# Altium schematic symbol library Schlib_V1.SchLib: 119 symbols (part 2 of 2)
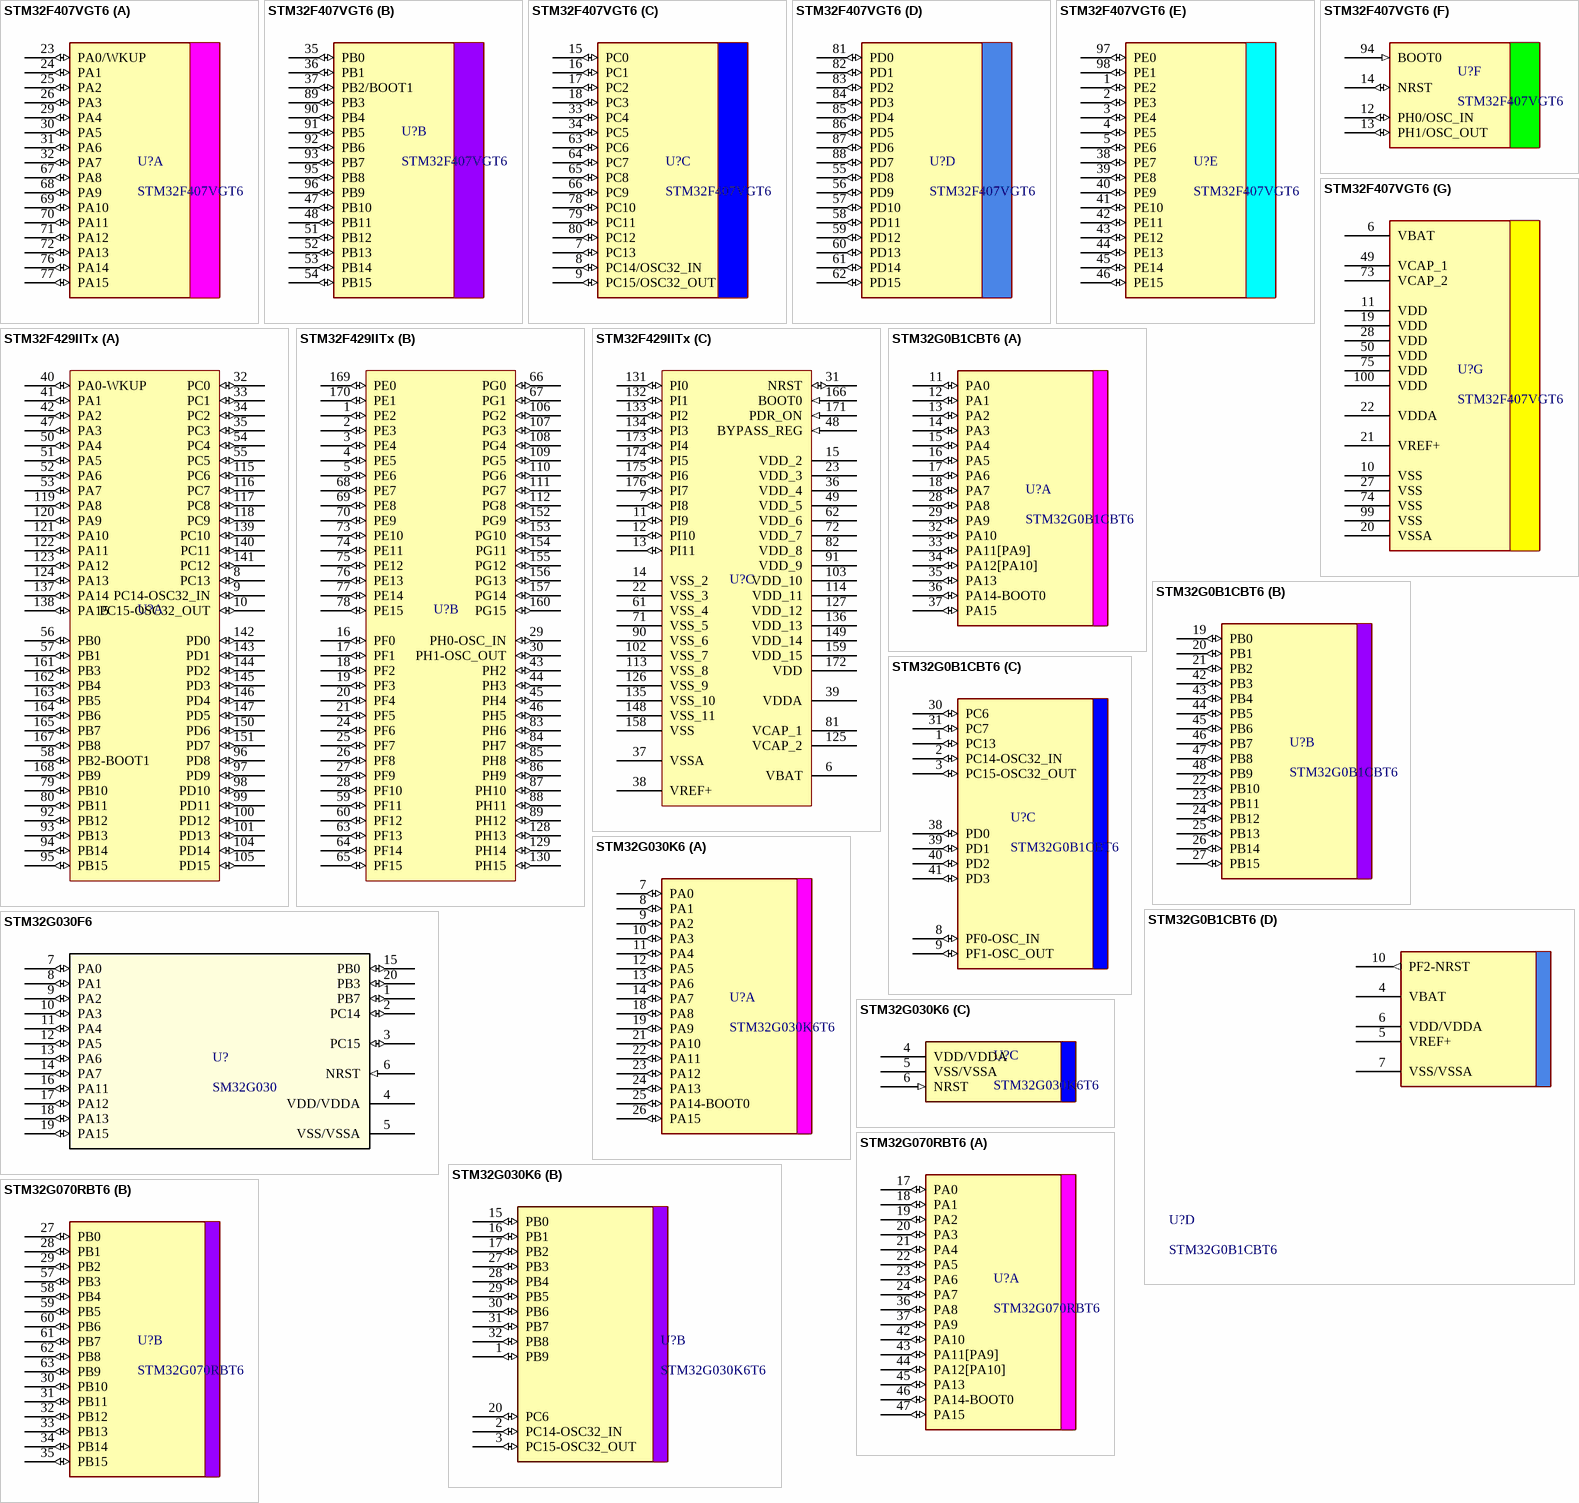
[diagram p9: symbols STM32F407VGT6 to STM32G070RBT6]

## STM32F407VGT6
designator U?
High-performance foundation line, Arm Cortex-M4 core with DSP and FPU, 1 Mbyte of Flash memory, 168 MHz CPU, ART Accelerator, Ethernet, FSMC; Manufacturer_Name: STMicroelectronics; Copyright: Copyright (C) 2025 Ultra Librarian. All rights reserved.; Manufacturer_Part_Number: STM32F407VGT6; RefDes: RefDes; Type: Type
footprint LQFP100
part A pins: 23 PA0/WKUP (io), 24 PA1 (io), 25 PA2 (io), 26 PA3 (io), 29 PA4 (io), 30 PA5 (io), 31 PA6 (io), 32 PA7 (io), 67 PA8 (io), 68 PA9 (io), 69 PA10 (io), 70 PA11 (io), 71 PA12 (io), 72 PA13 (io), 76 PA14 (io), 77 PA15 (io)
part B pins: 35 PB0 (io), 36 PB1 (io), 37 PB2/BOOT1 (io), 47 PB10 (io), 48 PB11 (io), 51 PB12 (io), 52 PB13 (io), 53 PB14 (io), 54 PB15 (io), 89 PB3 (io), 90 PB4 (io), 91 PB5 (io), 92 PB6 (io), 93 PB7 (io), 95 PB8 (io), 96 PB9 (io)
part C pins: 7 PC13 (io), 8 PC14/OSC32_IN (io), 9 PC15/OSC32_OUT (io), 15 PC0 (io), 16 PC1 (io), 17 PC2 (io), 18 PC3 (io), 33 PC4 (io), 34 PC5 (io), 63 PC6 (io), 64 PC7 (io), 65 PC8 (io), 66 PC9 (io), 78 PC10 (io), 79 PC11 (io), 80 PC12 (io)
part D pins: 55 PD8 (io), 56 PD9 (io), 57 PD10 (io), 58 PD11 (io), 59 PD12 (io), 60 PD13 (io), 61 PD14 (io), 62 PD15 (io), 81 PD0 (io), 82 PD1 (io), 83 PD2 (io), 84 PD3 (io), 85 PD4 (io), 86 PD5 (io), 87 PD6 (io), 88 PD7 (io)
part E pins: 1 PE2 (io), 2 PE3 (io), 3 PE4 (io), 4 PE5 (io), 5 PE6 (io), 38 PE7 (io), 39 PE8 (io), 40 PE9 (io), 41 PE10 (io), 42 PE11 (io), 43 PE12 (io), 44 PE13 (io), 45 PE14 (io), 46 PE15 (io), 97 PE0 (io), 98 PE1 (io)
part F pins: 12 PH0/OSC_IN (io), 13 PH1/OSC_OUT (io), 14 NRST (io), 94 BOOT0 (in)
part G pins: 6 VBAT (power), 10 VSS (power), 11 VDD (power), 19 VDD (power), 20 VSSA (power), 21 VREF+ (power), 22 VDDA (power), 27 VSS (power), 28 VDD (power), 49 VCAP_1 (power), 50 VDD (power), 73 VCAP_2 (power), 74 VSS (power), 75 VDD (power), 99 VSS (power), 100 VDD (power)

## STM32F429IITx
designator U?, comment MCU  (value not drawn)
footprint LQFN-176
part A pins: 8 PC13 (io), 9 PC14-OSC32_IN (io), 10 PC15-OSC32_OUT (io), 32 PC0 (io), 33 PC1 (io), 34 PC2 (io), 35 PC3 (io), 40 PA0-WKUP (io), 41 PA1 (io), 42 PA2 (io), 47 PA3 (io), 50 PA4 (io), 51 PA5 (io), 52 PA6 (io), 53 PA7 (io), 54 PC4 (io), 55 PC5 (io), 56 PB0 (io), 57 PB1 (io), 58 PB2-BOOT1 (io), 79 PB10 (io), 80 PB11 (io), 92 PB12 (io), 93 PB13 (io), 94 PB14 (io), 95 PB15 (io), 96 PD8 (io), 97 PD9 (io), 98 PD10 (io), 99 PD11 (io), 100 PD12 (io), 101 PD13 (io), 104 PD14 (io), 105 PD15 (io), 115 PC6 (io), 116 PC7 (io), 117 PC8 (io), 118 PC9 (io), 119 PA8 (io), 120 PA9 (io), 121 PA10 (io), 122 PA11 (io), 123 PA12 (io), 124 PA13 (io), 137 PA14 (io), 138 PA15 (io), 139 PC10 (io), 140 PC11 (io), 141 PC12 (io), 142 PD0 (io), 143 PD1 (io), 144 PD2 (io), 145 PD3 (io), 146 PD4 (io), 147 PD5 (io), 150 PD6 (io), 151 PD7 (io), 161 PB3 (io), 162 PB4 (io), 163 PB5 (io), 164 PB6 (io), 165 PB7 (io), 167 PB8 (io), 168 PB9 (io)
part B pins: 1 PE2 (io), 2 PE3 (io), 3 PE4 (io), 4 PE5 (io), 5 PE6 (io), 16 PF0 (io), 17 PF1 (io), 18 PF2 (io), 19 PF3 (io), 20 PF4 (io), 21 PF5 (io), 24 PF6 (io), 25 PF7 (io), 26 PF8 (io), 27 PF9 (io), 28 PF10 (io), 29 PH0-OSC_IN (io), 30 PH1-OSC_OUT (io), 43 PH2 (io), 44 PH3 (io), 45 PH4 (io), 46 PH5 (io), 59 PF11 (io), 60 PF12 (io), 63 PF13 (io), 64 PF14 (io), 65 PF15 (io), 66 PG0 (io), 67 PG1 (io), 68 PE7 (io), 69 PE8 (io), 70 PE9 (io), 73 PE10 (io), 74 PE11 (io), 75 PE12 (io), 76 PE13 (io), 77 PE14 (io), 78 PE15 (io), 83 PH6 (io), 84 PH7 (io), 85 PH8 (io), 86 PH9 (io), 87 PH10 (io), 88 PH11 (io), 89 PH12 (io), 106 PG2 (io), 107 PG3 (io), 108 PG4 (io), 109 PG5 (io), 110 PG6 (io), 111 PG7 (io), 112 PG8 (io), 128 PH13 (io), 129 PH14 (io), 130 PH15 (io), 152 PG9 (io), 153 PG10 (io), 154 PG11 (io), 155 PG12 (io), 156 PG13 (io), 157 PG14 (io), 160 PG15 (io), 169 PE0 (io), 170 PE1 (io)
part C pins: 6 VBAT (power), 7 PI8 (io), 11 PI9 (io), 12 PI10 (io), 13 PI11 (io), 14 VSS_2 (power), 15 VDD_2 (power), 22 VSS_3 (power), 23 VDD_3 (power), 31 NRST (io), 36 VDD_4 (power), 37 VSSA (power), 38 VREF+ (power), 39 VDDA (power), 48 BYPASS_REG (in), 49 VDD_5 (power), 61 VSS_4 (power), 62 VDD_6 (power), 71 VSS_5 (power), 72 VDD_7 (power), 81 VCAP_1 (power), 82 VDD_8 (power), 90 VSS_6 (power), 91 VDD_9 (power), 102 VSS_7 (power), 103 VDD_10 (power), 113 VSS_8 (power), 114 VDD_11 (power), 125 VCAP_2 (power), 126 VSS_9 (power), 127 VDD_12 (power), 131 PI0 (io), 132 PI1 (io), 133 PI2 (io), 134 PI3 (io), 135 VSS_10 (power), 136 VDD_13 (power), 148 VSS_11 (power), 149 VDD_14 (power), 158 VSS (power), 159 VDD_15 (power), 166 BOOT0 (in), 171 PDR_ON (in), 172 VDD (power), 173 PI4 (io), 174 PI5 (io), 175 PI6 (io), 176 PI7 (io)

## STM32G0B1CBT6
designator U?
Mainstream Arm Cortex-M0+ 32-bit MCU, up to 128KB Flash, 144KB RAM, 6x USART, timers, ADC, DAC, comm. I/Fs, 1.7-3.6V; Manufacturer_Name: STMicroelectronics; Copyright: Copyright (C) 2026 Ultra Librarian. All rights reserved.; Manufacturer_Part_Number: STM32G0B1CBT6; RefDes: RefDes; Type: Type
footprint LQFP-48
part A pins: 11 PA0 (io), 12 PA1 (io), 13 PA2 (io), 14 PA3 (io), 15 PA4 (io), 16 PA5 (io), 17 PA6 (io), 18 PA7 (io), 28 PA8 (io), 29 PA9 (io), 32 PA10 (io), 33 PA11[PA9] (io), 34 PA12[PA10] (io), 35 PA13 (io), 36 PA14-BOOT0 (io), 37 PA15 (io)
part B pins: 19 PB0 (io), 20 PB1 (io), 21 PB2 (io), 22 PB10 (io), 23 PB11 (io), 24 PB12 (io), 25 PB13 (io), 26 PB14 (io), 27 PB15 (io), 42 PB3 (io), 43 PB4 (io), 44 PB5 (io), 45 PB6 (io), 46 PB7 (io), 47 PB8 (io), 48 PB9 (io)
part C pins: 1 PC13 (io), 2 PC14-OSC32_IN (io), 3 PC15-OSC32_OUT (io), 8 PF0-OSC_IN (io), 9 PF1-OSC_OUT (io), 30 PC6 (io), 31 PC7 (io), 38 PD0 (io), 39 PD1 (io), 40 PD2 (io), 41 PD3 (io)
part D pins: 4 VBAT, 5 VREF+ (power), 6 VDD/VDDA (power), 7 VSS/VSSA (power), 10 PF2-NRST (out)

## STM32G030F6
designator U?, comment SM32G030
footprint TSSOP20
pins: 1 PB7 (io), 2 PC14 (io), 3 PC15 (io), 4 VDD/VDDA (power), 5 VSS/VSSA (power), 6 NRST (in), 7 PA0 (io), 8 PA1 (io), 9 PA2 (io), 10 PA3 (io), 11 PA4 (io), 12 PA5 (io), 13 PA6 (io), 14 PA7 (io), 15 PB0 (io), 16 PA11 (io), 17 PA12 (io), 18 PA13 (io), 19 PA15 (io), 20 PB3 (io)

## STM32G030K6
designator U?, comment STM32G030K6T6
Mainstream Value-Line Arm Cortex-M0+ MCU with 32 Kbytes of Flash memory, 8 Kbytes RAM, 64 MHz CPU, 2x USART, timers, ADC, comm. I/F, 2-3.6V; Manufacturer_Name: STMicroelectronics; Copyright: Copyright (C) 2026 Ultra Librarian. All rights reserved.; Manufacturer_Part_Number: STM32G030K6T6; RefDes: RefDes; Type: Type
footprint LQFP-32
part A pins: 7 PA0 (io), 8 PA1 (io), 9 PA2 (io), 10 PA3 (io), 11 PA4 (io), 12 PA5 (io), 13 PA6 (io), 14 PA7 (io), 18 PA8 (io), 19 PA9 (io), 21 PA10 (io), 22 PA11 (io), 23 PA12 (io), 24 PA13 (io), 25 PA14-BOOT0 (io), 26 PA15 (io)
part B pins: 1 PB9 (io), 2 PC14-OSC32_IN (io), 3 PC15-OSC32_OUT (io), 15 PB0 (io), 16 PB1 (io), 17 PB2 (io), 20 PC6 (io), 27 PB3 (io), 28 PB4 (io), 29 PB5 (io), 30 PB6 (io), 31 PB7 (io), 32 PB8 (io)
part C pins: 4 VDD/VDDA (power), 5 VSS/VSSA (power), 6 NRST (in)

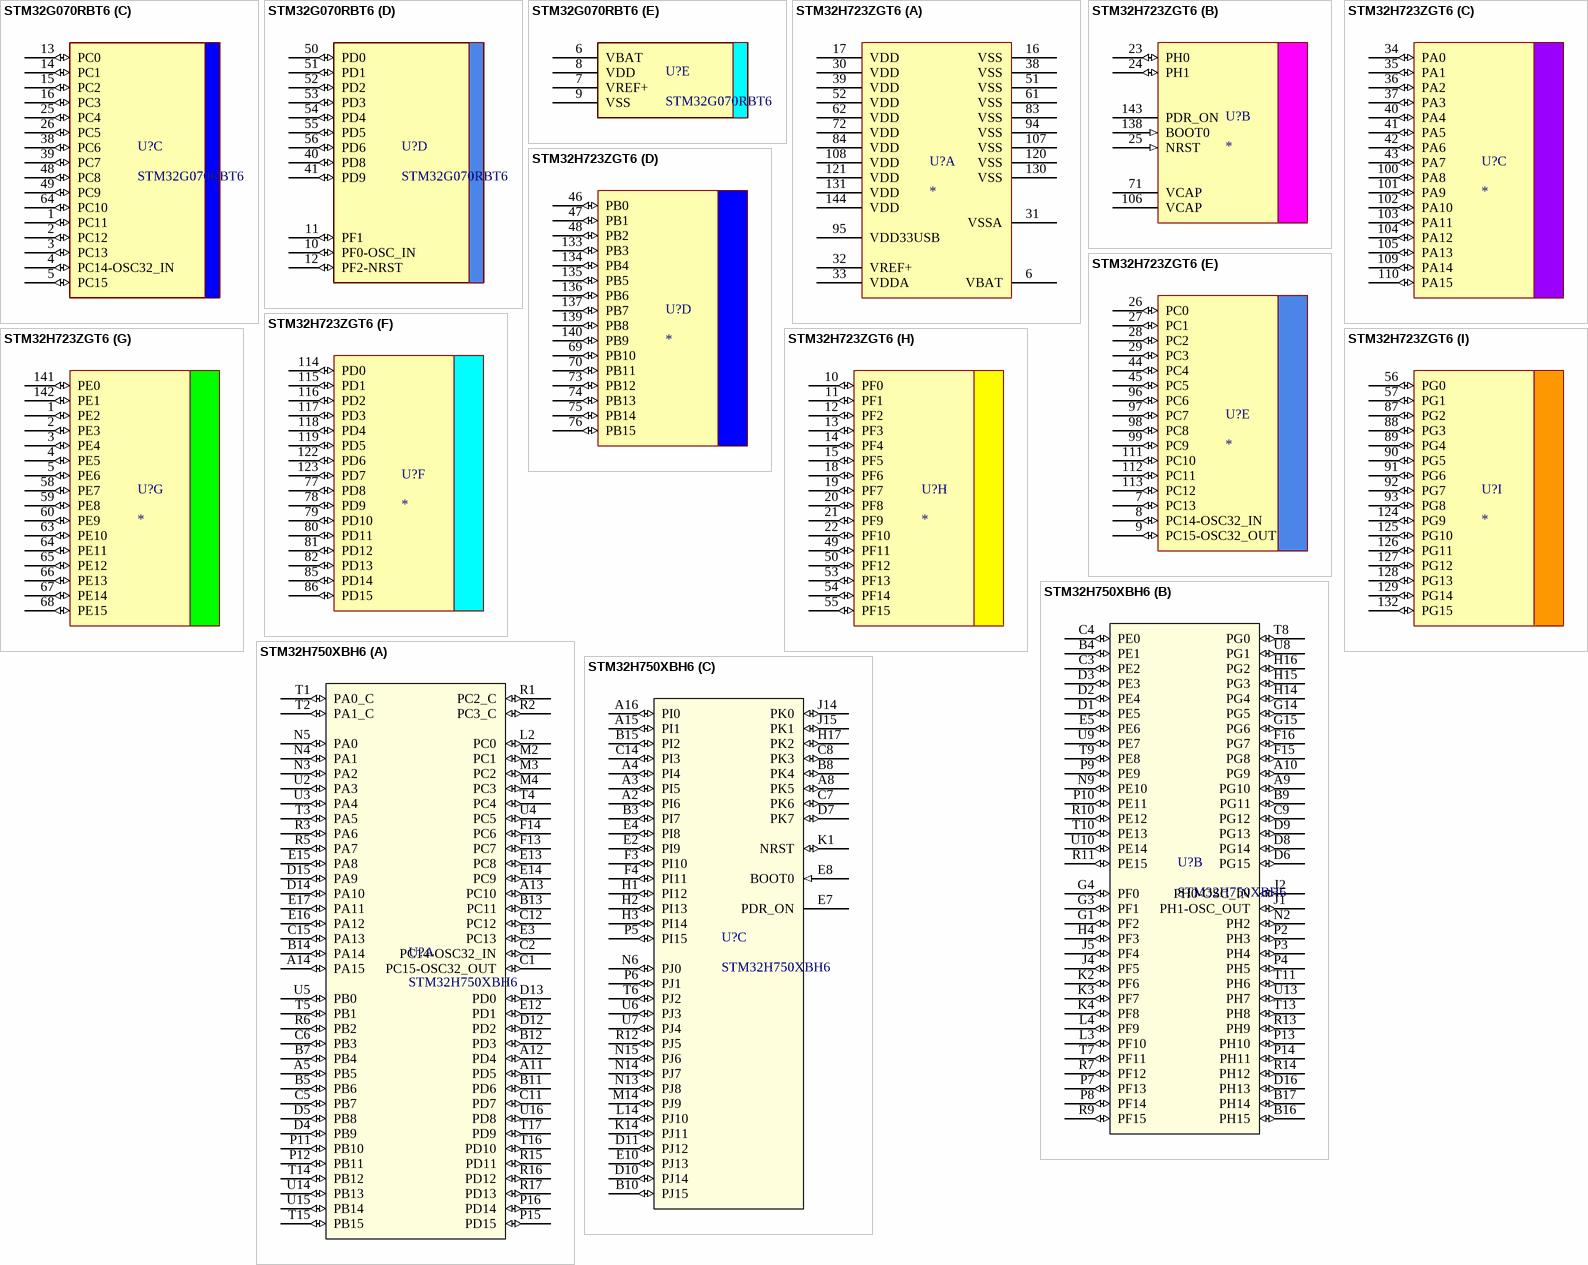
[diagram p6: symbols STM32G070RBT6 to STM32H750XBH6]

## STM32G070RBT6
designator U?
Mainstream Value line,  Arm Cortex-M0+ MCU with 128 Kbytes of Flash memory, 36 Kbytes RAM, 64 MHz CPU, 4x USART, timers, ADC, comm. I/F, 2-3.6V; Manufacturer_Name: STMicroelectronics; Copyright: Copyright (C) 2026 Ultra Librarian. All rights reserved.; Manufacturer_Part_Number: STM32G070RBT6; RefDes: RefDes; Type: Type
footprint LQFP-64
part A pins: 17 PA0 (io), 18 PA1 (io), 19 PA2 (io), 20 PA3 (io), 21 PA4 (io), 22 PA5 (io), 23 PA6 (io), 24 PA7 (io), 36 PA8 (io), 37 PA9 (io), 42 PA10 (io), 43 PA11[PA9] (io), 44 PA12[PA10] (io), 45 PA13 (io), 46 PA14-BOOT0 (io), 47 PA15 (io)
part B pins: 27 PB0 (io), 28 PB1 (io), 29 PB2 (io), 30 PB10 (io), 31 PB11 (io), 32 PB12 (io), 33 PB13 (io), 34 PB14 (io), 35 PB15 (io), 57 PB3 (io), 58 PB4 (io), 59 PB5 (io), 60 PB6 (io), 61 PB7 (io), 62 PB8 (io), 63 PB9 (io)
part C pins: 1 PC11 (io), 2 PC12 (io), 3 PC13 (io), 4 PC14-OSC32_IN (io), 5 PC15 (io), 13 PC0 (io), 14 PC1 (io), 15 PC2 (io), 16 PC3 (io), 25 PC4 (io), 26 PC5 (io), 38 PC6 (io), 39 PC7 (io), 48 PC8 (io), 49 PC9 (io), 64 PC10 (io)
part D pins: 10 PF0-OSC_IN (io), 11 PF1 (io), 12 PF2-NRST (io), 40 PD8 (io), 41 PD9 (io), 50 PD0 (io), 51 PD1 (io), 52 PD2 (io), 53 PD3 (io), 54 PD4 (io), 55 PD5 (io), 56 PD6 (io)
part E pins: 6 VBAT (power), 7 VREF+ (power), 8 VDD (power), 9 VSS (power)

## STM32H723ZGT6
designator U?
Arm® Cortex®-M7 32-bit 550 MHz MCU, up to 1 MB flash, 564 KB / RAM, Ethernet, USB, 3x FD-CAN, Graphics, 2x 16-bit ADCs; Mfr_Name: STMicroelectronics; RefDes: RefDes; Type: Type
footprint LQFP144
part A pins: 6 VBAT (power), 16 VSS (power), 17 VDD (power), 30 VDD (power), 31 VSSA (power), 32 VREF+ (power), 33 VDDA (power), 38 VSS (power), 39 VDD (power), 51 VSS (power), 52 VDD (power), 61 VSS (power), 62 VDD (power), 72 VDD (power), 83 VSS (power), 84 VDD (power), 94 VSS (power), 95 VDD33USB (power), 107 VSS (power), 108 VDD (power), 120 VSS (power), 121 VDD (power), 130 VSS (power), 131 VDD (power), 144 VDD (power)
part B pins: 23 PH0 (io), 24 PH1 (io), 25 NRST (in), 71 VCAP (power), 106 VCAP (power), 138 BOOT0 (in), 143 PDR_ON (power)
part C pins: 34 PA0 (io), 35 PA1 (io), 36 PA2 (io), 37 PA3 (io), 40 PA4 (io), 41 PA5 (io), 42 PA6 (io), 43 PA7 (io), 100 PA8 (io), 101 PA9 (io), 102 PA10 (io), 103 PA11 (io), 104 PA12 (io), 105 PA13 (io), 109 PA14 (io), 110 PA15 (io)
part D pins: 46 PB0 (io), 47 PB1 (io), 48 PB2 (io), 69 PB10 (io), 70 PB11 (io), 73 PB12 (io), 74 PB13 (io), 75 PB14 (io), 76 PB15 (io), 133 PB3 (io), 134 PB4 (io), 135 PB5 (io), 136 PB6 (io), 137 PB7 (io), 139 PB8 (io), 140 PB9 (io)
part E pins: 7 PC13 (io), 8 PC14-OSC32_IN (io), 9 PC15-OSC32_OUT (io), 26 PC0 (io), 27 PC1 (io), 28 PC2 (io), 29 PC3 (io), 44 PC4 (io), 45 PC5 (io), 96 PC6 (io), 97 PC7 (io), 98 PC8 (io), 99 PC9 (io), 111 PC10 (io), 112 PC11 (io), 113 PC12 (io)
part F pins: 77 PD8 (io), 78 PD9 (io), 79 PD10 (io), 80 PD11 (io), 81 PD12 (io), 82 PD13 (io), 85 PD14 (io), 86 PD15 (io), 114 PD0 (io), 115 PD1 (io), 116 PD2 (io), 117 PD3 (io), 118 PD4 (io), 119 PD5 (io), 122 PD6 (io), 123 PD7 (io)
part G pins: 1 PE2 (io), 2 PE3 (io), 3 PE4 (io), 4 PE5 (io), 5 PE6 (io), 58 PE7 (io), 59 PE8 (io), 60 PE9 (io), 63 PE10 (io), 64 PE11 (io), 65 PE12 (io), 66 PE13 (io), 67 PE14 (io), 68 PE15 (io), 141 PE0 (io), 142 PE1 (io)
part H pins: 10 PF0 (io), 11 PF1 (io), 12 PF2 (io), 13 PF3 (io), 14 PF4 (io), 15 PF5 (io), 18 PF6 (io), 19 PF7 (io), 20 PF8 (io), 21 PF9 (io), 22 PF10 (io), 49 PF11 (io), 50 PF12 (io), 53 PF13 (io), 54 PF14 (io), 55 PF15 (io)
part I pins: 56 PG0 (io), 57 PG1 (io), 87 PG2 (io), 88 PG3 (io), 89 PG4 (io), 90 PG5 (io), 91 PG6 (io), 92 PG7 (io), 93 PG8 (io), 124 PG9 (io), 125 PG10 (io), 126 PG11 (io), 127 PG12 (io), 128 PG13 (io), 129 PG14 (io), 132 PG15 (io)

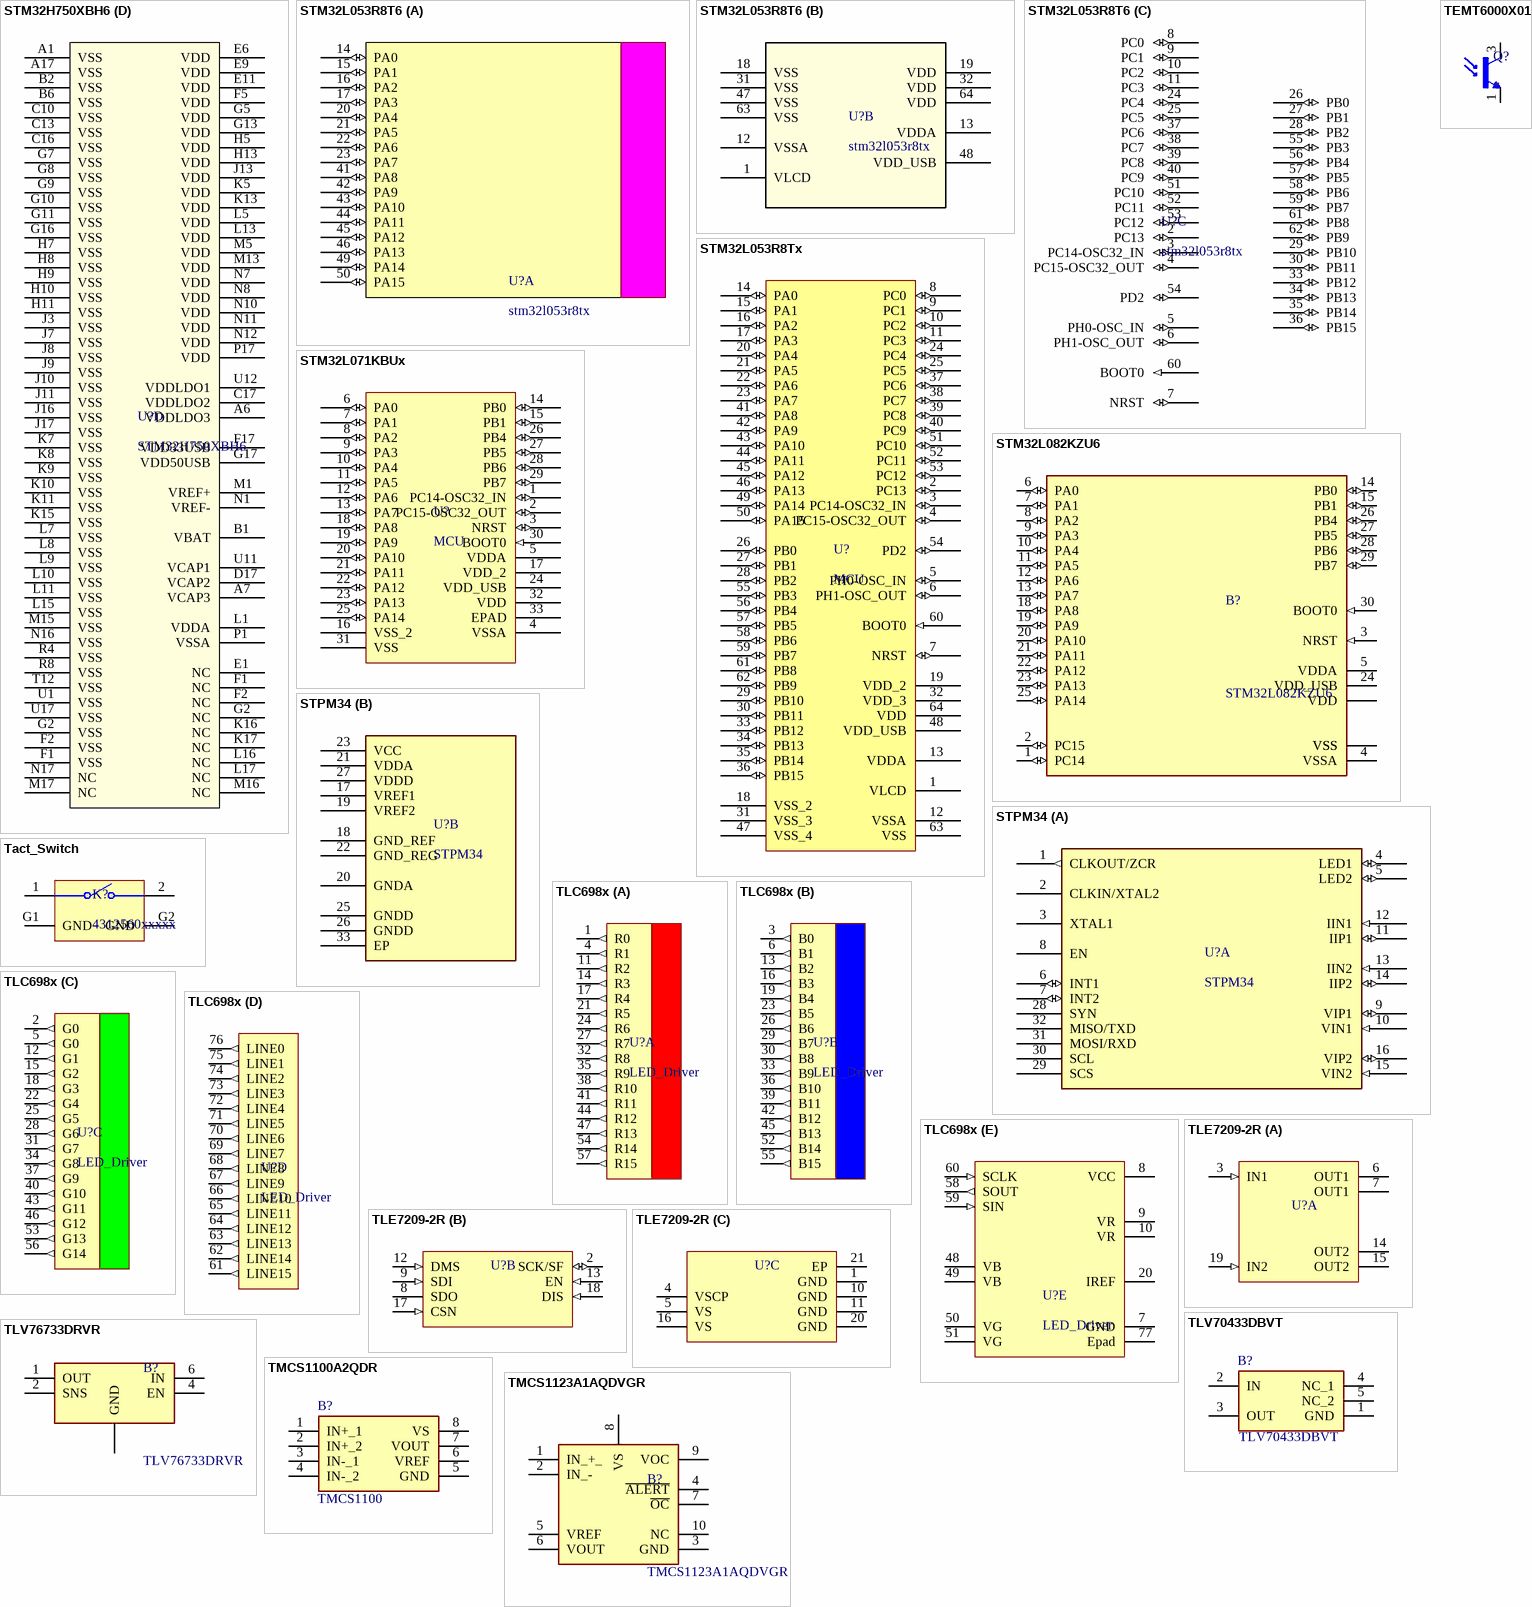
[diagram p7: symbols STM32H750XBH6 to TMCS1123A1AQDVGR]

## STM32H750XBH6
designator U?
32-bit Arm® Cortex-M7 480MHz MCUs, 128 Kbyte Flash, / 1 Mbyte RAM, 46 com. and analog interfaces, crypto; Mfr_Name: STMicroelectronics; Copyright: Copyright (C) 2022 Ultra Librarian. All rights reserved.; Manufacturer_Part_Number: STM32H750XBH6; RefDes: RefDes; Type: DEV
footprint TFBGA 14X14X1.2 P 0.8 240+25L
part A pins: A5 PB5 (io), A11 PD5 (io), A12 PD4 (io), A13 PC10 (io), A14 PA15 (io), B5 PB6 (io), B7 PB4 (io), B11 PD6 (io), B12 PD3 (io), B13 PC11 (io), B14 PA14 (io), C1 PC15-OSC32_OUT (io), C2 PC14-OSC32_IN (io), C5 PB7 (io), C6 PB3 (io), C11 PD7 (io), C12 PC12 (io), C15 PA13 (io), D4 PB9 (io), D5 PB8 (io), D12 PD2 (io), D13 PD0 (io), D14 PA10 (io), D15 PA9 (io), E3 PC13 (io), E12 PD1 (io), E13 PC8 (io), E14 PC9 (io), E15 PA8 (io), E16 PA12 (io), E17 PA11 (io), F13 PC7 (io), F14 PC6 (io), L2 PC0 (io), M2 PC1 (io), M3 PC2 (io), M4 PC3 (io), N3 PA2 (io), N4 PA1 (io), N5 PA0 (io), P11 PB10 (io), P12 PB11 (io), P15 PD15 (io), P16 PD14 (io), R1 PC2_C (io), R2 PC3_C (io), R3 PA6 (io), R5 PA7 (io), R6 PB2 (io), R15 PD11 (io), R16 PD12 (io), R17 PD13 (io), T1 PA0_C (io), T2 PA1_C (io), T3 PA5 (io), T4 PC4 (io), T5 PB1 (io), T14 PB12 (io), T15 PB15 (io), T16 PD10 (io), T17 PD9 (io), U2 PA3 (io), U3 PA4 (io), U4 PC5 (io), U5 PB0 (io), U14 PB13 (io), U15 PB14 (io), U16 PD8 (io)
part B pins: A9 PG10 (io), A10 PG9 (io), B4 PE1 (io), B9 PG11 (io), B16 PH15 (io), B17 PH14 (io), C3 PE2 (io), C4 PE0 (io), C9 PG12 (io), D1 PE5 (io), D2 PE4 (io), D3 PE3 (io), D6 PG15 (io), D8 PG14 (io), D9 PG13 (io), D16 PH13 (io), E5 PE6 (io), F15 PG8 (io), F16 PG7 (io), G1 PF2 (io), G3 PF1 (io), G4 PF0 (io), G14 PG5 (io), G15 PG6 (io), H4 PF3 (io), H14 PG4 (io), H15 PG3 (io), H16 PG2 (io), J1 PH1-OSC_OUT (io), J2 PH0-OSC_IN (io), J4 PF5 (io), J5 PF4 (io), K2 PF6 (io), K3 PF7 (io), K4 PF8 (io), L3 PF10 (io), L4 PF9 (io), N2 PH2 (io), N9 PE10 (io), P2 PH3 (io), P3 PH4 (io), P4 PH5 (io), P7 PF13 (io), P8 PF14 (io), P9 PE9 (io), P10 PE11 (io), P13 PH10 (io), P14 PH11 (io), R7 PF12 (io), R9 PF15 (io), R10 PE12 (io), R11 PE15 (io), R13 PH9 (io), R14 PH12 (io), T7 PF11 (io), T8 PG0 (io), T9 PE8 (io), T10 PE13 (io), T11 PH6 (io), T13 PH8 (io), U8 PG1 (io), U9 PE7 (io), U10 PE14 (io), U13 PH7 (io)
part C pins: A2 PI6 (io), A3 PI5 (io), A4 PI4 (io), A8 PK5 (io), A15 PI1 (io), A16 PI0 (io), B3 PI7 (io), B8 PK4 (io), B10 PJ15 (io), B15 PI2 (io), C7 PK6 (io), C8 PK3 (io), C14 PI3 (io), D7 PK7 (io), D10 PJ14 (io), D11 PJ12 (io), E2 PI9 (io), E4 PI8 (io), E7 PDR_ON, E8 BOOT0 (in), E10 PJ13 (io), F3 PI10 (io), F4 PI11 (io), H1 PI12 (io), H2 PI13 (io), H3 PI14 (io), H17 PK2 (io), J14 PK0 (io), J15 PK1 (io), K1 NRST (io), K14 PJ11 (io), L14 PJ10 (io), M14 PJ9 (io), N6 PJ0 (io), N13 PJ8 (io), N14 PJ7 (io), N15 PJ6 (io), P5 PI15 (io), P6 PJ1 (io), R12 PJ5 (io), T6 PJ2 (io), U6 PJ3 (io), U7 PJ4 (io)
part D pins: A1 VSS (power), A6 VDDLDO3 (power), A7 VCAP3 (power), A17 VSS (power), B1 VBAT (power), B2 VSS (power), B6 VSS (power), C10 VSS (power), C13 VSS (power), C16 VSS (power), C17 VDDLDO2 (power), D17 VCAP2 (power), E1 NC (power), E6 VDD (power), E9 VDD (power), E11 VDD (power), F1 VSS (power), F1 NC (power), F2 VSS (power), F2 NC (power), F5 VDD (power), F17 VDD33USB (power), G2 VSS (power), G2 NC (power), G5 VDD (power), G7 VSS (power), G8 VSS (power), G9 VSS (power), G10 VSS (power), G11 VSS (power), G13 VDD (power), G16 VSS (power), G17 VDD50USB (power), H5 VDD (power), H7 VSS (power), H8 VSS (power), H9 VSS (power), H10 VSS (power), H11 VSS (power), H13 VDD (power), J3 VSS (power), J7 VSS (power), J8 VSS (power), J9 VSS (power), J10 VSS (power), J11 VSS (power), J13 VDD (power), J16 VSS (power), J17 VSS (power), K5 VDD (power), K7 VSS (power), K8 VSS (power), K9 VSS (power), K10 VSS (power), K11 VSS (power), K13 VDD (power), K15 VSS (power), K16 NC (power), K17 NC (power), L1 VDDA (power), L5 VDD (power), L7 VSS (power), L8 VSS (power), L9 VSS (power), L10 VSS (power), L11 VSS (power), L13 VDD (power), L15 VSS (power), L16 NC (power), L17 NC (power), M1 VREF+ (power), M5 VDD (power), M13 VDD (power), M15 VSS (power), M16 NC (power), M17 NC (power), N1 VREF- (power), N7 VDD (power), N8 VDD (power), N10 VDD (power), N11 VDD (power), N12 VDD (power), N16 VSS (power), N17 NC (power), P1 VSSA (power), P17 VDD (power), R4 VSS (power), R8 VSS (power), T12 VSS (power), U1 VSS (power), U11 VCAP1 (power), U12 VDDLDO1 (power), U17 VSS (power)

## STM32L053R8T6
designator U?, comment stm32l053r8tx
Ultra-low-power 32-bit MCU Arm®-based Cortex®-M0+, up to 64KB / Flash, 8KB SRAM, 2KB EEPROM, LCD, USB, ADC, DAC; Mfr_Name: STMicroelectronics; RefDes: RefDes; Type: Type
footprint LQFP64-10x10mm
part A pins: 14 PA0 (io), 15 PA1 (io), 16 PA2 (io), 17 PA3 (io), 20 PA4 (io), 21 PA5 (io), 22 PA6 (io), 23 PA7 (io), 41 PA8 (io), 42 PA9 (io), 43 PA10 (io), 44 PA11 (io), 45 PA12 (io), 46 PA13 (io), 49 PA14 (io), 50 PA15 (io)
part B pins: 1 VLCD (power), 12 VSSA (power), 13 VDDA (power), 18 VSS (power), 19 VDD (power), 31 VSS (power), 32 VDD (power), 47 VSS (power), 48 VDD_USB (power), 63 VSS (power), 64 VDD (power)
part C pins: 2 PC13 (io), 3 PC14-OSC32_IN (io), 4 PC15-OSC32_OUT (io), 5 PH0-OSC_IN (io), 6 PH1-OSC_OUT (io), 7 NRST (io), 8 PC0 (io), 9 PC1 (io), 10 PC2 (io), 11 PC3 (io), 24 PC4 (io), 25 PC5 (io), 26 PB0 (io), 27 PB1 (io), 28 PB2 (io), 29 PB10 (io), 30 PB11 (io), 33 PB12 (io), 34 PB13 (io), 35 PB14 (io), 36 PB15 (io), 37 PC6 (io), 38 PC7 (io), 39 PC8 (io), 40 PC9 (io), 51 PC10 (io), 52 PC11 (io), 53 PC12 (io), 54 PD2 (io), 55 PB3 (io), 56 PB4 (io), 57 PB5 (io), 58 PB6 (io), 59 PB7 (io), 60 BOOT0 (in), 61 PB8 (io), 62 PB9 (io)

## STM32L053R8Tx
designator U?, comment MCU
footprint LQFP-64
pins: 1 VLCD (power), 2 PC13 (io), 3 PC14-OSC32_IN (io), 4 PC15-OSC32_OUT (io), 5 PH0-OSC_IN (io), 6 PH1-OSC_OUT (io), 7 NRST (io), 8 PC0 (io), 9 PC1 (io), 10 PC2 (io), 11 PC3 (io), 12 VSSA (power), 13 VDDA (power), 14 PA0 (io), 15 PA1 (io), 16 PA2 (io), 17 PA3 (io), 18 VSS_2 (power), 19 VDD_2 (power), 20 PA4 (io), 21 PA5 (io), 22 PA6 (io), 23 PA7 (io), 24 PC4 (io), 25 PC5 (io), 26 PB0 (io), 27 PB1 (io), 28 PB2 (io), 29 PB10 (io), 30 PB11 (io), 31 VSS_3 (power), 32 VDD_3 (power), 33 PB12 (io), 34 PB13 (io), 35 PB14 (io), 36 PB15 (io), 37 PC6 (io), 38 PC7 (io), 39 PC8 (io), 40 PC9 (io), 41 PA8 (io), 42 PA9 (io), 43 PA10 (io), 44 PA11 (io), 45 PA12 (io), 46 PA13 (io), 47 VSS_4 (power), 48 VDD_USB (power), 49 PA14 (io), 50 PA15 (io), 51 PC10 (io), 52 PC11 (io), 53 PC12 (io), 54 PD2 (io), 55 PB3 (io), 56 PB4 (io), 57 PB5 (io), 58 PB6 (io), 59 PB7 (io), 60 BOOT0 (in), 61 PB8 (io), 62 PB9 (io), 63 VSS (power), 64 VDD (power)

## STM32L071KBUx
designator U?, comment MCU
The ultra-low-power STM32L072xx are offered in 10 different package typesfrom 32 pins to / 100 pins. Depending on the device chosen, different sets of peripherals are included, the / description below gives an overview of the complete range of peripherals proposed in this / family.
footprint UFQFPN32
pins: 1 PC14-OSC32_IN (io), 2 PC15-OSC32_OUT (io), 3 NRST (io), 4 VSSA (power), 5 VDDA (power), 6 PA0 (io), 7 PA1 (io), 8 PA2 (io), 9 PA3 (io), 10 PA4 (io), 11 PA5 (io), 12 PA6 (io), 13 PA7 (io), 14 PB0 (io), 15 PB1 (io), 16 VSS_2 (power), 17 VDD_2 (power), 18 PA8 (io), 19 PA9 (io), 20 PA10 (io), 21 PA11 (io), 22 PA12 (io), 23 PA13 (io), 24 VDD_USB (power), 25 PA14 (io), 26 PB4 (io), 27 PB5 (io), 28 PB6 (io), 29 PB7 (io), 30 BOOT0 (in), 31 VSS (power), 32 VDD (power), 33 EPAD

## STM32L082KZU6
designator B?
STMICROELECTRONICS - STM32L082KZU6 - ARM MCU, STM32 Family STM32L0 Series Microcontrollers, ARM Cortex-M0+, 32bit, 32 MHz, 192 KB, 20 KB; Geometry.Height: 0.6mm; Mouser Part Number: 511-STM32L082KZU6; Mouser Price/Stock: https://www.mouser.co.uk/ProductDetail/STMicroelectronics/STM32L082KZU6?qs=mwoc%252BQmZlGLNl9cvHEixgQ%3D%3D; Manufacturer_Name: STMicroelectronics; Manufacturer_Part_Number: STM32L082KZU6; Datasheet Link: https://componentsearchengine.com/Datasheets/2/STM32L082KZU6.pdf
footprint UFQFPN32 (UFQFPN32 - 32-pin, 5x5 mm, 0.5 mm pitch ultra thin fine pitch quad flat  package outline)
pins: 1 PC14 (io), 2 PC15 (io), 3 NRST (in), 4 VSSA (power), 5 VDDA (power), 6 PA0 (io), 7 PA1 (io), 8 PA2 (io), 9 PA3 (io), 10 PA4 (io), 11 PA5 (io), 12 PA6 (io), 13 PA7 (io), 14 PB0 (io), 15 PB1 (io), 16 VSS (power), 17 VDD (power), 18 PA8 (io), 19 PA9 (io), 20 PA10 (io), 21 PA11 (io), 22 PA12 (io), 23 PA13 (io), 24 VDD_USB (power), 25 PA14 (io), 26 PB4 (io), 27 PB5 (io), 28 PB6 (io), 29 PB7 (io), 30 BOOT0 (in), 31 VSS (power), 32 VDD (power), 33 VSS (power)

## STPM34
designator U?
ASSP for metering applications with up to four independent 24-bit 2nd order sigma-delta ADCs, 4 MHz OSF and 2 embedded PGLNA; Manufacturer_Name: STMicroelectronics; Copyright: Copyright (C) 2026 Ultra Librarian. All rights reserved.; Manufacturer_Part_Number: STPM34; Datasheet: https://www.st.com/resource/en/datasheet/stpm32.pdf; RefDes: RefDes; Type: Type
footprint QFN-32
part A pins: 1 CLKOUT/ZCR (out), 2 CLKIN/XTAL2, 3 XTAL1, 4 LED1 (io), 5 LED2 (io), 6 INT1 (io), 7 INT2 (io), 8 EN, 9 VIP1 (io), 10 VIN1 (in), 11 IIP1 (io), 12 IIN1 (in), 13 IIN2 (in), 14 IIP2 (io), 15 VIN2 (in), 16 VIP2 (io), 28 SYN, 29 SCS, 30 SCL, 31 MOSI/RXD, 32 MISO/TXD
part B pins: 17 VREF1 (power), 18 GND_REF (power), 19 VREF2 (power), 20 GNDA (power), 21 VDDA (power), 22 GND_REG (power), 23 VCC (power), 25 GNDD (power), 26 GNDD (power), 27 VDDD (power), 33 EP

## Tact_Switch
designator K?, comment 4312560xxxxx
WS-TATU THT Tact Switch 6x6 mm Right Angled Type with ground terminal
footprint 4312560317x6 (6x6mm right angle Tact Switch with ground terminal, THT version)
footprint 4312560387x6 (6x6mm right angle Tact Switch with ground terminal, THT version)
footprint 4312560587x6 (6x6mm right angle Tact Switch with ground terminal, THT version)
footprint 4312560837x6 (6x6mm right angle Tact Switch with ground terminal, THT version)
pins: 1, 2, G1 GND, G2 GND

## TEMT6000X01
designator Q?
Phototransistors 570nm Top View 1206 (3216 Metric); MF: Vishay Semiconductor; MP: TEMT6000X01; SnapEDA_Link: https://www.snapeda.com/parts/TEMT6000X01/Vishay/view-part/?ref=snap; Package: 1206 Vishay; Value: *; Check_prices: https://www.snapeda.com/parts/TEMT6000X01/Vishay/view-part/?ref=eda
footprint TEMT6000X01
pins: 1 E, 3 C

## TLC698x
designator U?, comment LED_Driver
48 × 16 Common Cathode Matrix LED Display Driver with Ultra-Low Power; Supplier 1: Mouser; Supplier Part Number 1: 595-TLC6983RRFR
footprint VQFN76
part A pins: 1 R0 (out), 4 R1 (out), 11 R2 (out), 14 R3 (out), 17 R4 (out), 21 R5 (out), 24 R6 (out), 27 R7 (out), 32 R8 (out), 35 R9 (out), 38 R10 (out), 41 R11 (out), 44 R12 (out), 47 R13 (out), 54 R14 (out), 57 R15 (out)
part B pins: 3 B0 (out), 6 B1 (out), 13 B2 (out), 16 B3 (out), 19 B4 (out), 23 B5 (out), 26 B6 (out), 29 B7 (out), 30 B8 (out), 33 B9 (out), 36 B10 (out), 39 B11 (out), 42 B12 (out), 45 B13 (out), 52 B14 (out), 55 B15 (out)
part C pins: 2 G0 (out), 5 G0 (out), 12 G1 (out), 15 G2 (out), 18 G3 (out), 22 G4 (out), 25 G5 (out), 28 G6 (out), 31 G7 (out), 34 G8 (out), 37 G9 (out), 40 G10 (out), 43 G11 (out), 46 G12 (out), 53 G13 (out), 56 G14 (out)
part D pins: 61 LINE15 (out), 62 LINE14 (out), 63 LINE13 (out), 64 LINE12 (out), 65 LINE11 (out), 66 LINE10 (out), 67 LINE9 (out), 68 LINE8 (out), 69 LINE7 (out), 70 LINE6 (out), 71 LINE5 (out), 72 LINE4 (out), 73 LINE3 (out), 74 LINE2 (out), 75 LINE1 (out), 76 LINE0 (out)
part E pins: 7 GND (power), 8 VCC (power), 9 VR (power), 10 VR (power), 20 IREF (power), 48 VB (power), 49 VB (power), 50 VG (power), 51 VG (power), 58 SOUT (out), 59 SIN (in), 60 SCLK (in), 77 Epad (power)

## TLE7209-2R
designator U?
7 A H-Bridge for DC-Motor Applications, 5 to 28 V, 150 mOhm RDS(on), PG-DSO-20-37, Reel, Green; Manufacturer: Infineon; PartNumber: TLE7209-2R; Current Limit (min.): 5.5 A; Green: TRUE; Operating Range: 5 to 28 V; Quiescent Current (max.): 20 mA; RthJC (max): 1.5 K/W; DatasheetVersion: Rev. 1.5; PackageReference: PG-DSO-20-37; PackageDescription: 20-Pin Plastic (Green) Dual Small Outline Package, 15.9 x 11 mm Body, 1.27 mm Pitch; Supplier 1: Digi-Key; Supplier Part Number 1: TLE7209-2R-ND; Supplier 2: Mouser; Supplier Part Number 2: 726-TLE72092R; Halogen-free: TRUE; Packing: Reel; RDS (on) (typ./switch): 150 mOhm; Mounting Technology: Surface Mount; ComponentLink1Description: Manufacturer URL; ComponentLink1URL: http://www.infineon.com/; ComponentLink2Description: Datasheet; ComponentLink2URL: http://www.infineon.com/dgdl/TLE7209-2R-Data+Sheet-Infineon-v15.pdf?folderId=db3a30431b3e89eb011bb632994f065b&fileId=db3a30431f848401011fc76ca8e77a06&sId=db3a30443d67b5ca013d7f7d1d1f2bb3; ComponentLink3Description: Package Specification; ComponentLink3URL: http://www.infineon.com/cms/packages/SMD_-_Surface_Mounted_Devices/P-PG-DSO/P-PG-DSO-20-10x_-12x_-13x_-16x_-33x_-34x_-37x_-48x_-50.html?__locale=en
footprint PG-DSO-20 (SOP, 20-Leads, Body 15.9x11mm, Pitch 1.27mm, Thermal Pad 15.84x6mm, IPC High Density)
part A pins: 3 IN1 (in) "Input 1", 6 OUT1 (power) "Output 1; connect pins externally", 7 OUT1 (power) "Output 1; connect pins externally", 14 OUT2 (power) "Output 2; connect pins externally", 15 OUT2 (power) "Output 2; connect pins externally", 19 IN2 (in) "Input 2"
part B pins: 2 SCK/SF (io) "SPI-Clock/Status-flag", 8 SDO (hiz) "Serial data out", 9 SDI (in) "Serial data in", 12 DMS (in) "Diagnostic-Mode selection (+ Supply voltage for SPI-Interface)", 13 EN (in) "Enable", 17 CSN (in) "Chip Select (low active)", 18 DIS (in) "Disable"
part C pins: 1 GND (power) "Ground", 4 VSCP (power) "Supply voltage for internal charge pump", 5 VS (power) "Supply voltage; connect pins externally", 10 GND (power) "Ground", 11 GND (power) "Ground", 16 VS (power) "Supply voltage; connect pins externally", 20 GND (power) "Ground", 21 EP (power)

## TLV70433DBVT
designator B?
24V Input Voltage, 150mA, Ultra-Low-Iq Low-Dropout (LDO) Regulators; Manufacturer_Name: Texas Instruments; Geometry.Height: 1.45mm; Mouser Part Number: 595-TLV70433DBVT; Mouser Price/Stock: https://www.mouser.co.uk/ProductDetail/Texas-Instruments/TLV70433DBVT?qs=Ze4%2FuFuz19IlUNeVVK7Mig%3D%3D; Manufacturer_Part_Number: TLV70433DBVT; Datasheet Link: http://www.ti.com/lit/gpn/tlv704
footprint SOT23-5N
pins: 1 GND, 2 IN, 3 OUT, 4 NC_1, 5 NC_2

## TLV76733DRVR
designator B?
Adjustable and fixed 1-A 16-V positive-voltage low-dropout (LDO) linear regulator; Manufacturer_Name: Texas Instruments; Geometry.Height: 0.8mm; Mouser Part Number: 595-TLV76733DRVR; Mouser Price/Stock: https://www.mouser.co.uk/ProductDetail/Texas-Instruments/TLV76733DRVR?qs=9r4v7xj2LnmGIkwTuPlHig%3D%3D; Manufacturer_Part_Number: TLV76733DRVR; Datasheet Link: http://www.ti.com/lit/gpn/TLV767
footprint WSON_6 (Footprint not found)
pins: 1 OUT, 2 SNS, 3 GND, 4 EN, 5 GND, 6 IN, 7 EP

## TMCS1100A2QDR
designator B?, comment TMCS1100
Board Mount Current Sensors Precision isolated current sensor with external reference; Manufacturer_Name: Texas Instruments; Manufacturer_Part_Number: TMCS1100A2QDR; Geometry.Height: 1.75mm; Mouser Part Number: 595-TMCS1100A2QDR; Mouser Price/Stock: https://www.mouser.co.uk/ProductDetail/Texas-Instruments/TMCS1100A2QDR?qs=sPbYRqrBIVnDChUnLpnImg%3D%3D; Datasheet Link: https://www.ti.com/lit/gpn/TMCS1100
footprint SOIC8
pins: 1 IN+_1, 2 IN+_2, 3 IN-_1, 4 IN-_2, 5 GND, 6 VREF, 7 VOUT, 8 VS

## TMCS1123A1AQDVGR
designator B?
Current Sensor +/-96A 1 Channel Hall Effect Bidirectional 10-SOIC (0.295", 7.50mm Width); Manufacturer_Name: Texas Instruments; Geometry.Height: 2.65mm; Mouser Part Number: 595-TMCS1123A1AQDVGR; Mouser Price/Stock: https://www.mouser.co.uk/ProductDetail/Texas-Instruments/TMCS1123A1AQDVGR?qs=mELouGlnn3ezMP2QpzrvaA%3D%3D; Manufacturer_Part_Number: TMCS1123A1AQDVGR; Datasheet Link: https://www.ti.com/lit/ds/symlink/tmcs1123.pdf?ts=1707973672803&ref_url=https%253A%252F%252Fwww.google.com%252F
footprint SOIC10
pins: 1 IN_+_, 2 IN_-, 3 GND, 4 ~{ALERT}, 5 VREF, 6 VOUT, 7 ~{OC}, 8 VS, 9 VOC, 10 NC

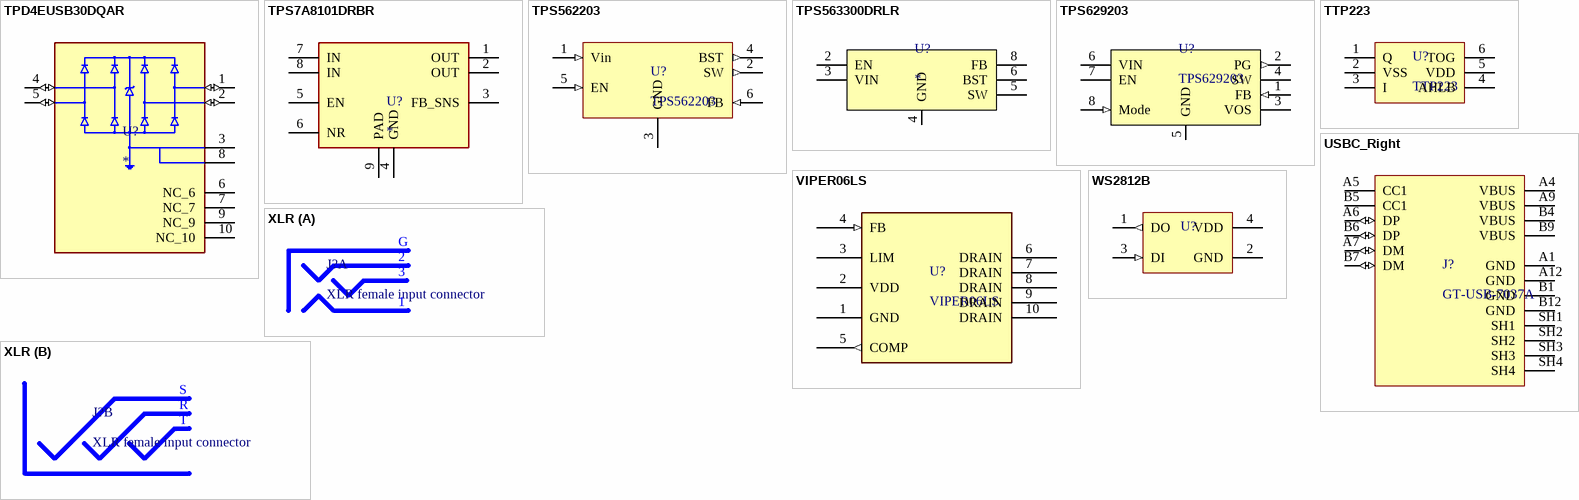
[diagram p8: symbols TPD4EUSB30DQAR to XLR]

## TPD4EUSB30DQAR
designator U?
4-channel ESD solution for SuperSpeed (6 Gbps) USB 3.0 interface 10-USON -40 to 85; MP: TPD4EUSB30DQAR; Value: *; Package: None; Price: None; Availability: Unavailable
footprint IC_TPD4EUSB30DQAR
pins: 1 D1+ (io), 2 D1- (io), 3 GND_3 (power), 4 D2+ (io), 5 D2- (io), 6 NC_6, 7 NC_7, 8 GND_8 (power), 9 NC_9, 10 NC_10

## TPS7A8101DRBR
designator U?
No Description Available; Mfr_Name: Texas Instruments; PartNumber: TPS7A8101DRBR; Alternate_PartNumber: TPS7A8101DRBT; CompType: IC; TYPE: TYPE; RefDes: RefDes; PackageReference: DRB0008A; MountType: SMT; RoHS: Y; Manufacturer: Texas Instruments
footprint DRB0008A
pins: 1 OUT (power), 2 OUT (power), 3 FB_SNS (power), 4 GND (power), 5 EN (power), 6 NR (power), 7 IN (power), 8 IN (power), 9 PAD (power)

## TPS562203
designator U?
Switching Voltage Regulators 4.2-V to 17-V input 2-A synchronous buck
footprint SOT563-6
pins: 1 Vin (in), 2 SW (out), 3 GND (power), 4 BST (out), 5 EN (in), 6 FB (in)

## TPS563300DRLR
designator U?
No Description Available; Mfr_Name: Texas Instruments; RefDes: RefDes; Type: Type
footprint SOT5X3-8
pins: 2 EN, 3 VIN (power), 4 GND (power), 5 SW (power), 6 BST (power), 8 FB

## TPS629203
designator U?
300-mA, 3-V to 17-V Low IQ Buck Converter with DCS-Control; Mfr_Name: Texas Instruments; RefDes: RefDes; Type: Type
footprint SOT5X3-8
pins: 1 FB (in), 2 PG (out), 3 VOS (power), 4 SW (power), 5 GND (power), 6 VIN (power), 7 EN (power), 8 Mode (in)

## TTP223
designator U?
1 KEY TOUCH PAD DETECTOR IC
footprint SOT-23-6L (SOT23, 6-Leads, Body 2.90x2.85mm, Pitch 0.95mm, IPC Medium Density)
pins: 1 Q, 2 VSS, 3 I, 4 AHLB, 5 VDD, 6 TOG

## USBC_Right
designator J?, comment GT-USB-7037A
footprint USBC_Right
pins: A1 GND (power), A4 VBUS (power), A5 CC1, A6 DP (io), A7 DM (io), A9 VBUS (power), A12 GND (power), B1 GND (power), B4 VBUS (power), B5 CC1, B6 DP (io), B7 DM (io), B9 VBUS (power), B12 GND (power), SH1 (power), SH2 (power), SH3 (power), SH4 (power)

## VIPER06LS
designator U?
VIPerPlus family: Energy saving high voltage converter for direct feedback; Manufacturer_Name: STMicroelectronics; Copyright: Copyright (C) 2026 Ultra Librarian. All rights reserved.; Manufacturer_Part_Number: VIPER06LS; Datasheet: https://www.st.com/resource/en/datasheet/viper06.pdf; RefDes: RefDes; Type: Type
footprint SSO-10
pins: 1 GND (power), 2 VDD (power), 3 LIM, 4 FB (in), 5 COMP (out), 6 DRAIN, 7 DRAIN, 8 DRAIN, 9 DRAIN, 10 DRAIN

## WS2812B
designator U?
Intelligent control LED / integrated light source
footprint WS2812B-2020
footprint WS2812B-2020_wide
pins: 1 DO (out), 2 GND (power), 3 DI (in), 4 VDD (power)

## XLR
designator J?, comment XLR female input connector
Standard or low profile / high density shell design / Two connectors in the one housing / Industry standard PCB footprint layout on standard C type. / Vertical or Horizontal PCB mounting / Bulk packed / Positive latch lock system (XLR)
footprint 55010428
part A pins: 1, 2, 3, G
part B pins: R, S, T